# EAGLE library part STA013 (library IC & Transistor)
SMD Audio Decoder STA013RL
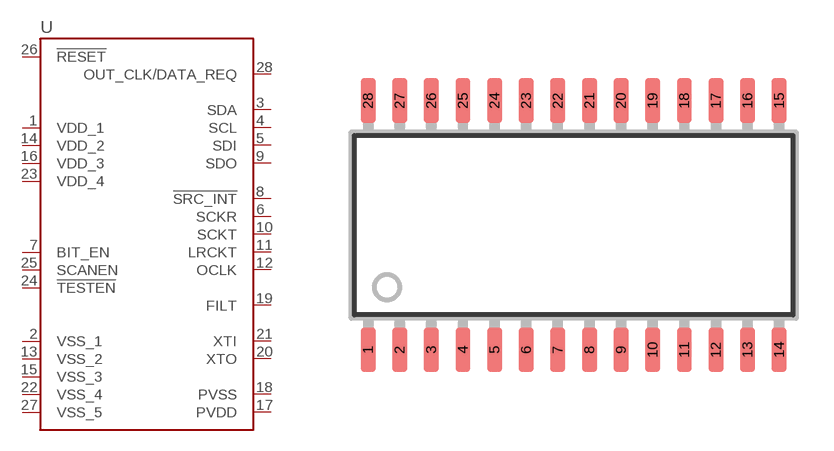
[diagram p55: symbol with the pads of SOIC-28W; footprint SOIC-28W]

Designator prefix -

## STA013_(SOIC-28W) (CYTRON-PC: S-IC-STA013RL-S028; DESC: S Audio Decoder STA013RL SO20; MF: ST; MPN: STA013RL)  [SOIC-28W]
1  VDD_1
2  VSS_1
3  SDA
4  SCL
5  SDI
6  SCKR
7  BIT_EN
8  !SRC_INT
9  SDO
10  SCKT
11  LRCKT
12  OCLK
13  VSS_2
14  VDD_2
15  VSS_3
16  VDD_3
17  PVDD
18  PVSS
19  FILT
20  XTO
21  XTI
22  VSS_4
23  VDD_4
24  !TESTEN
25  SCANEN
26  !RESET
27  VSS_5
28  OUT_CLK/DATA_REQ

## Footprint SOIC-28W (pad centres in mm)
Small Outline Integrated Circuit (SOIC) Wide (EIAJ) SOIC Package Size: 17.87 x 7.49mm Lead Pitch: 1.27mm Created by: OoiBP
smd 0.6 x 1.8: 1 -8.255,-5; 2 -6.985,-5; 3 -5.715,-5; 4 -4.445,-5; 5 -3.175,-5; 6 -1.905,-5; 7 -0.635,-5; 8 0.635,-5; 9 1.905,-5; 10 3.175,-5; 11 4.445,-5; 12 5.715,-5; 13 6.985,-5; 14 8.255,-5; 15 8.255,5; 16 6.985,5; 17 5.715,5; 18 4.445,5; 19 3.175,5; 20 1.905,5; 21 0.635,5; 22 -0.635,5; 23 -1.905,5; 24 -3.175,5; 25 -4.445,5; 26 -5.715,5; 27 -6.985,5; 28 -8.255,5